# Altium integrated library Altera MAX 9000.IntLib: 43 symbols (part 4 of 4)
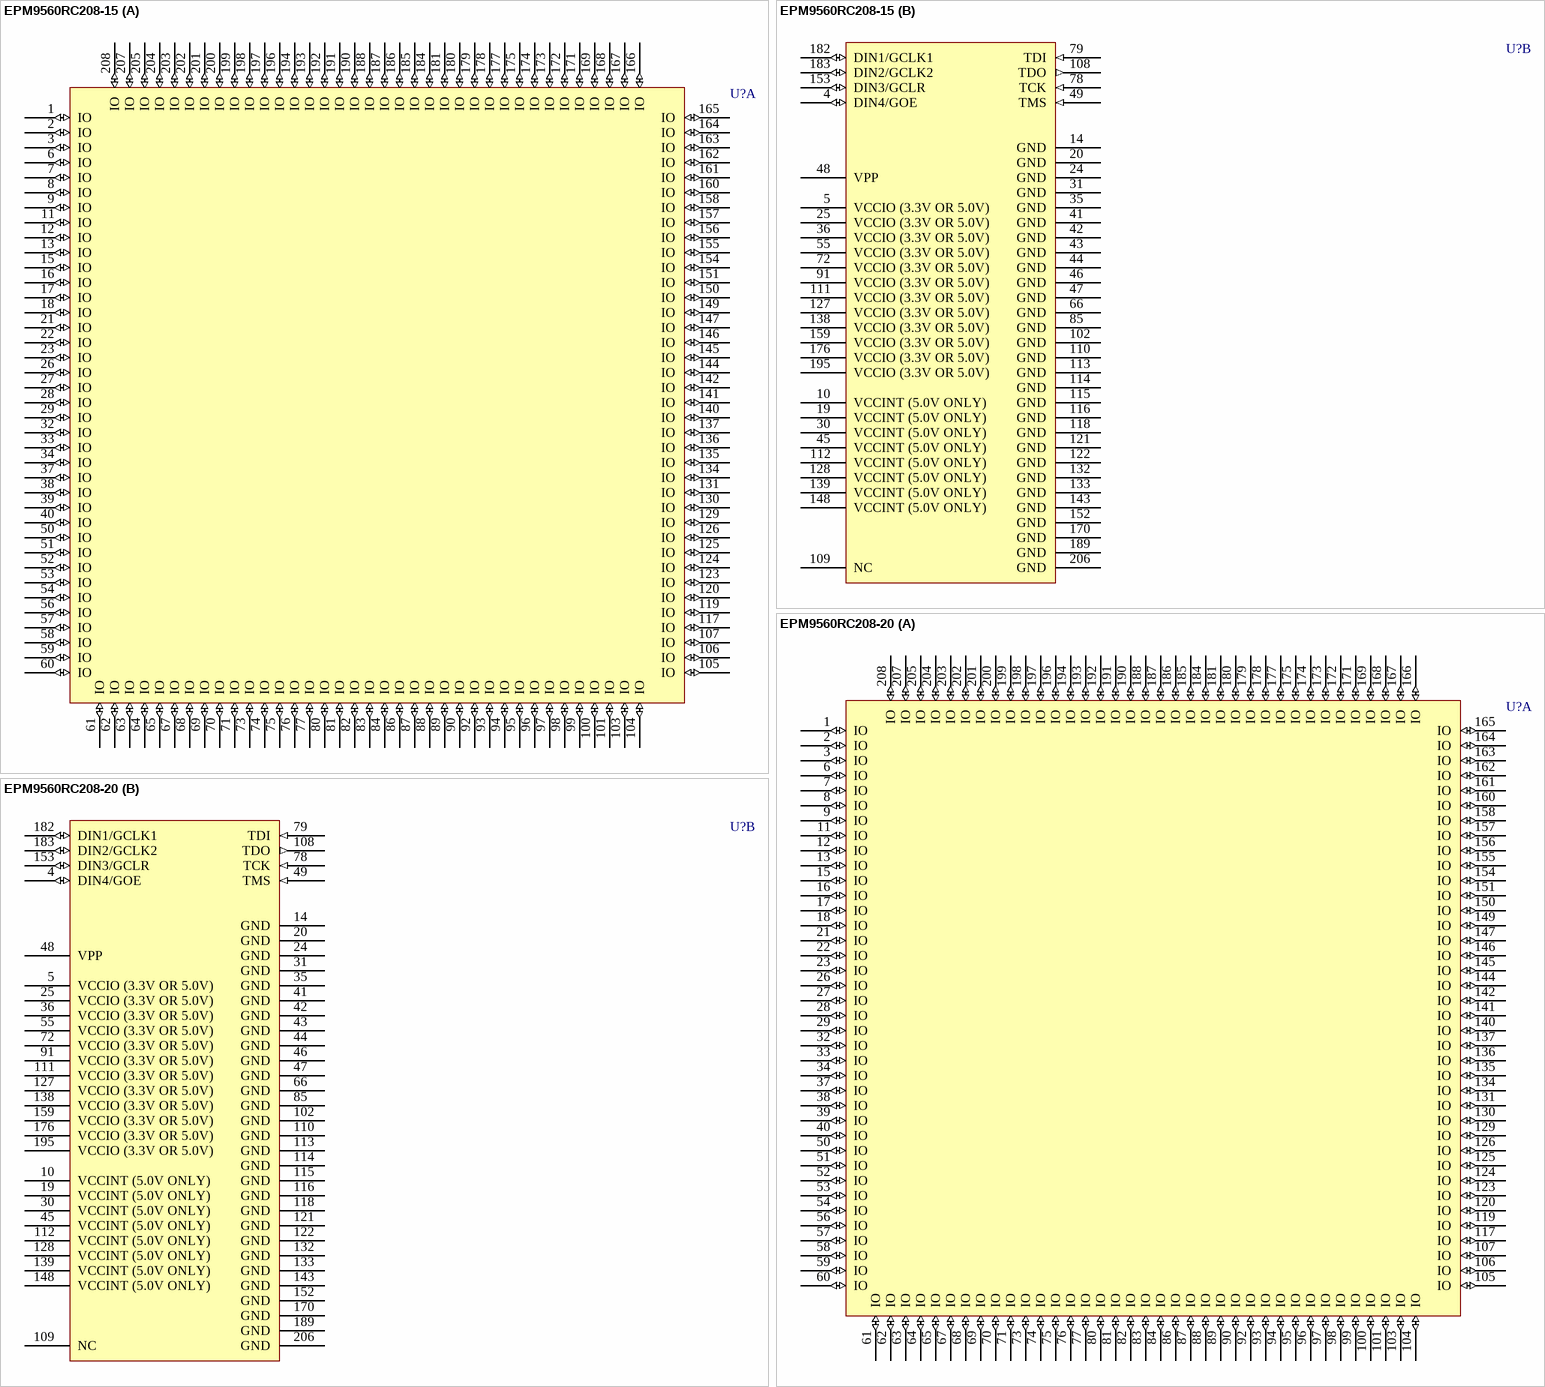
[diagram p33: symbols EPM9560RC208-15 to EPM9560RC208-20]

## EPM9560RC208-15
designator U?
MAX 9000 PLD with 153 I/O Pins, 208-Pin RQFP, Commercial Grade; Published: 23-Sep-2002; LatestRevisionDate: 13-Apr-2006; LatestRevisionNote: IPC-7351 Footprint Added.; DatasheetVersion: Jul-1999; PackageVersion: ver14.1, Oct-2005; PackageReference: RQFP208; Publisher: Altium Limited; PackageDescription: 208-Pin Power Quad Flat Pack (RQFP208); Code_JEDEC: MS-029-FA-1; ComponentLink1Description: Manufacturer Link; ComponentLink1URL: http://www.altera.com/products/devices/max9k/m9k-index.html; ComponentLink2Description: Datasheet; ComponentLink2URL: http://www.altera.com/literature/ds/m9000.pdf
footprint RQFP208_N (Shrink QFP, 208-Leads, Body 28x28mm, Pitch 0.5mm, IPC Medium Density)
footprint RQFP208_L (Shrink QFP, 208-Leads, Body 28x28mm, Pitch 0.5mm, IPC High Density)
footprint RQFP208_M (Shrink QFP, 208-Leads, Body 28x28mm, Pitch 0.5mm, IPC Low Density)
3D model EPM9560-RQFP208 (208-Pin Power Quad Flat Pack (RQFP208))
part A pins: 1 IO (io), 2 IO (io), 3 IO (io), 6 IO (io), 7 IO (io), 8 IO (io), 9 IO (io), 11 IO (io), 12 IO (io), 13 IO (io), 15 IO (io), 16 IO (io), 17 IO (io), 18 IO (io), 21 IO (io), 22 IO (io), 23 IO (io), 26 IO (io), 27 IO (io), 28 IO (io), 29 IO (io), 32 IO (io), 33 IO (io), 34 IO (io), 37 IO (io), 38 IO (io), 39 IO (io), 40 IO (io), 50 IO (io), 51 IO (io), 52 IO (io), 53 IO (io), 54 IO (io), 56 IO (io), 57 IO (io), 58 IO (io), 59 IO (io), 60 IO (io), 61 IO (io), 62 IO (io), 63 IO (io), 64 IO (io), 65 IO (io), 67 IO (io), 68 IO (io), 69 IO (io), 70 IO (io), 71 IO (io), 73 IO (io), 74 IO (io), 75 IO (io), 76 IO (io), 77 IO (io), 80 IO (io), 81 IO (io), 82 IO (io), 83 IO (io), 84 IO (io), 86 IO (io), 87 IO (io), 88 IO (io), 89 IO (io), 90 IO (io), 92 IO (io), 93 IO (io), 94 IO (io), 95 IO (io), 96 IO (io), 97 IO (io), 98 IO (io), 99 IO (io), 100 IO (io), 101 IO (io), 103 IO (io), 104 IO (io), 105 IO (io), 106 IO (io), 107 IO (io), 117 IO (io), 119 IO (io), 120 IO (io), 123 IO (io), 124 IO (io), 125 IO (io), 126 IO (io), 129 IO (io), 130 IO (io), 131 IO (io), 134 IO (io), 135 IO (io), 136 IO (io), 137 IO (io), 140 IO (io), 141 IO (io), 142 IO (io), 144 IO (io), 145 IO (io), 146 IO (io), 147 IO (io), 149 IO (io), 150 IO (io), 151 IO (io), 154 IO (io), 155 IO (io), 156 IO (io), 157 IO (io), 158 IO (io), 160 IO (io), 161 IO (io), 162 IO (io), 163 IO (io), 164 IO (io), 165 IO (io), 166 IO (io), 167 IO (io), 168 IO (io), 169 IO (io), 171 IO (io), 172 IO (io), 173 IO (io), 174 IO (io), 175 IO (io), 177 IO (io), 178 IO (io), 179 IO (io), 180 IO (io), 181 IO (io), 184 IO (io), 185 IO (io), 186 IO (io), 187 IO (io), 188 IO (io), 190 IO (io), 191 IO (io), 192 IO (io), 193 IO (io), 194 IO (io), 196 IO (io), 197 IO (io), 198 IO (io), 199 IO (io), 200 IO (io), 201 IO (io), 202 IO (io), 203 IO (io), 204 IO (io), 205 IO (io), 207 IO (io), 208 IO (io)
part B pins: 4 DIN4/GOE (io), 5 VCCIO (3.3V OR 5.0V) (power), 10 VCCINT (5.0V ONLY) (power), 14 GND (power), 19 VCCINT (5.0V ONLY) (power), 20 GND (power), 24 GND (power), 25 VCCIO (3.3V OR 5.0V) (power), 30 VCCINT (5.0V ONLY) (power), 31 GND (power), 35 GND (power), 36 VCCIO (3.3V OR 5.0V) (power), 41 GND (power), 42 GND (power), 43 GND (power), 44 GND (power), 45 VCCINT (5.0V ONLY) (power), 46 GND (power), 47 GND (power), 48 VPP (power), 49 TMS (in), 55 VCCIO (3.3V OR 5.0V) (power), 66 GND (power), 72 VCCIO (3.3V OR 5.0V) (power), 78 TCK (in), 79 TDI (in), 85 GND (power), 91 VCCIO (3.3V OR 5.0V) (power), 102 GND (power), 108 TDO (out), 109 NC, 110 GND (power), 111 VCCIO (3.3V OR 5.0V) (power), 112 VCCINT (5.0V ONLY) (power), 113 GND (power), 114 GND (power), 115 GND (power), 116 GND (power), 118 GND (power), 121 GND (power), 122 GND (power), 127 VCCIO (3.3V OR 5.0V) (power), 128 VCCINT (5.0V ONLY) (power), 132 GND (power), 133 GND (power), 138 VCCIO (3.3V OR 5.0V) (power), 139 VCCINT (5.0V ONLY) (power), 143 GND (power), 148 VCCINT (5.0V ONLY) (power), 152 GND (power), 153 DIN3/GCLR (io), 159 VCCIO (3.3V OR 5.0V) (power), 170 GND (power), 176 VCCIO (3.3V OR 5.0V) (power), 182 DIN1/GCLK1 (io), 183 DIN2/GCLK2 (io), 189 GND (power), 195 VCCIO (3.3V OR 5.0V) (power), 206 GND (power)

## EPM9560RC208-20
designator U?
MAX 9000 PLD with 153 I/O Pins, 208-Pin RQFP, Commercial Grade; Published: 23-Sep-2002; LatestRevisionDate: 13-Apr-2006; LatestRevisionNote: IPC-7351 Footprint Added.; DatasheetVersion: Jul-1999; PackageVersion: ver14.1, Oct-2005; PackageReference: RQFP208; Publisher: Altium Limited; PackageDescription: 208-Pin Power Quad Flat Pack (RQFP208); Code_JEDEC: MS-029-FA-1; ComponentLink1Description: Manufacturer Link; ComponentLink1URL: http://www.altera.com/products/devices/max9k/m9k-index.html; ComponentLink2Description: Datasheet; ComponentLink2URL: http://www.altera.com/literature/ds/m9000.pdf
footprint RQFP208_N (Shrink QFP, 208-Leads, Body 28x28mm, Pitch 0.5mm, IPC Medium Density)
footprint RQFP208_L (Shrink QFP, 208-Leads, Body 28x28mm, Pitch 0.5mm, IPC High Density)
footprint RQFP208_M (Shrink QFP, 208-Leads, Body 28x28mm, Pitch 0.5mm, IPC Low Density)
3D model EPM9560-RQFP208 (208-Pin Power Quad Flat Pack (RQFP208))
part A pins: 1 IO (io), 2 IO (io), 3 IO (io), 6 IO (io), 7 IO (io), 8 IO (io), 9 IO (io), 11 IO (io), 12 IO (io), 13 IO (io), 15 IO (io), 16 IO (io), 17 IO (io), 18 IO (io), 21 IO (io), 22 IO (io), 23 IO (io), 26 IO (io), 27 IO (io), 28 IO (io), 29 IO (io), 32 IO (io), 33 IO (io), 34 IO (io), 37 IO (io), 38 IO (io), 39 IO (io), 40 IO (io), 50 IO (io), 51 IO (io), 52 IO (io), 53 IO (io), 54 IO (io), 56 IO (io), 57 IO (io), 58 IO (io), 59 IO (io), 60 IO (io), 61 IO (io), 62 IO (io), 63 IO (io), 64 IO (io), 65 IO (io), 67 IO (io), 68 IO (io), 69 IO (io), 70 IO (io), 71 IO (io), 73 IO (io), 74 IO (io), 75 IO (io), 76 IO (io), 77 IO (io), 80 IO (io), 81 IO (io), 82 IO (io), 83 IO (io), 84 IO (io), 86 IO (io), 87 IO (io), 88 IO (io), 89 IO (io), 90 IO (io), 92 IO (io), 93 IO (io), 94 IO (io), 95 IO (io), 96 IO (io), 97 IO (io), 98 IO (io), 99 IO (io), 100 IO (io), 101 IO (io), 103 IO (io), 104 IO (io), 105 IO (io), 106 IO (io), 107 IO (io), 117 IO (io), 119 IO (io), 120 IO (io), 123 IO (io), 124 IO (io), 125 IO (io), 126 IO (io), 129 IO (io), 130 IO (io), 131 IO (io), 134 IO (io), 135 IO (io), 136 IO (io), 137 IO (io), 140 IO (io), 141 IO (io), 142 IO (io), 144 IO (io), 145 IO (io), 146 IO (io), 147 IO (io), 149 IO (io), 150 IO (io), 151 IO (io), 154 IO (io), 155 IO (io), 156 IO (io), 157 IO (io), 158 IO (io), 160 IO (io), 161 IO (io), 162 IO (io), 163 IO (io), 164 IO (io), 165 IO (io), 166 IO (io), 167 IO (io), 168 IO (io), 169 IO (io), 171 IO (io), 172 IO (io), 173 IO (io), 174 IO (io), 175 IO (io), 177 IO (io), 178 IO (io), 179 IO (io), 180 IO (io), 181 IO (io), 184 IO (io), 185 IO (io), 186 IO (io), 187 IO (io), 188 IO (io), 190 IO (io), 191 IO (io), 192 IO (io), 193 IO (io), 194 IO (io), 196 IO (io), 197 IO (io), 198 IO (io), 199 IO (io), 200 IO (io), 201 IO (io), 202 IO (io), 203 IO (io), 204 IO (io), 205 IO (io), 207 IO (io), 208 IO (io)
part B pins: 4 DIN4/GOE (io), 5 VCCIO (3.3V OR 5.0V) (power), 10 VCCINT (5.0V ONLY) (power), 14 GND (power), 19 VCCINT (5.0V ONLY) (power), 20 GND (power), 24 GND (power), 25 VCCIO (3.3V OR 5.0V) (power), 30 VCCINT (5.0V ONLY) (power), 31 GND (power), 35 GND (power), 36 VCCIO (3.3V OR 5.0V) (power), 41 GND (power), 42 GND (power), 43 GND (power), 44 GND (power), 45 VCCINT (5.0V ONLY) (power), 46 GND (power), 47 GND (power), 48 VPP (power), 49 TMS (in), 55 VCCIO (3.3V OR 5.0V) (power), 66 GND (power), 72 VCCIO (3.3V OR 5.0V) (power), 78 TCK (in), 79 TDI (in), 85 GND (power), 91 VCCIO (3.3V OR 5.0V) (power), 102 GND (power), 108 TDO (out), 109 NC, 110 GND (power), 111 VCCIO (3.3V OR 5.0V) (power), 112 VCCINT (5.0V ONLY) (power), 113 GND (power), 114 GND (power), 115 GND (power), 116 GND (power), 118 GND (power), 121 GND (power), 122 GND (power), 127 VCCIO (3.3V OR 5.0V) (power), 128 VCCINT (5.0V ONLY) (power), 132 GND (power), 133 GND (power), 138 VCCIO (3.3V OR 5.0V) (power), 139 VCCINT (5.0V ONLY) (power), 143 GND (power), 148 VCCINT (5.0V ONLY) (power), 152 GND (power), 153 DIN3/GCLR (io), 159 VCCIO (3.3V OR 5.0V) (power), 170 GND (power), 176 VCCIO (3.3V OR 5.0V) (power), 182 DIN1/GCLK1 (io), 183 DIN2/GCLK2 (io), 189 GND (power), 195 VCCIO (3.3V OR 5.0V) (power), 206 GND (power)

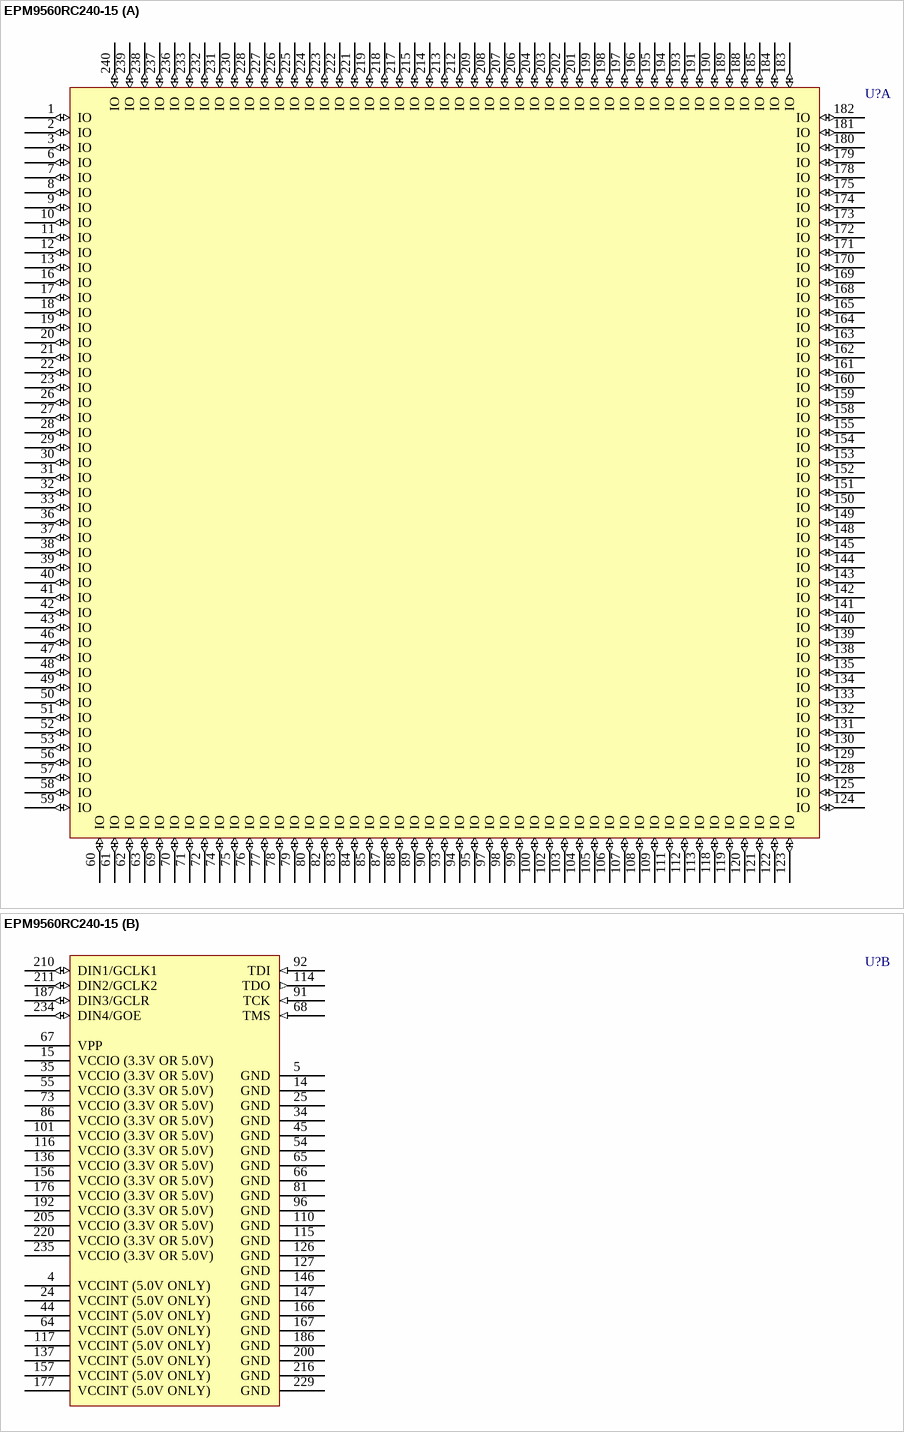
[diagram p25: symbol EPM9560RC240-15]

## EPM9560RC240-15
designator U?
MAX 9000 PLD with 191 I/O Pins, 240-Pin RQFP, Commercial Grade; Published: 23-Sep-2002; LatestRevisionDate: 13-Apr-2006; LatestRevisionNote: IPC-7351 Footprint Added.; DatasheetVersion: Jul-1999; PackageVersion: ver14.1, Oct-2005; PackageReference: RQFP240; Publisher: Altium Limited; PackageDescription: 240-Pin Power Quad Flat Pack (RQFP240); Code_JEDEC: MS-029-GA; ComponentLink1Description: Manufacturer Link; ComponentLink1URL: http://www.altera.com/products/devices/max9k/m9k-index.html; ComponentLink2Description: Datasheet; ComponentLink2URL: http://www.altera.com/literature/ds/m9000.pdf
footprint RQFP240_N (Shrink QFP, 240-Leads, Body 32x32mm, Pitch 0.5mm, IPC Medium Density)
footprint RQFP240_L (Shrink QFP, 240-Leads, Body 32x32mm, Pitch 0.5mm, IPC High Density)
footprint RQFP240_M (Shrink QFP, 240-Leads, Body 32x32mm, Pitch 0.5mm, IPC Low Density)
3D model EPM9560-RQFP240 (240-Pin Power Quad Flat Pack (RQFP240))
part A pins: 1 IO (io), 2 IO (io), 3 IO (io), 6 IO (io), 7 IO (io), 8 IO (io), 9 IO (io), 10 IO (io), 11 IO (io), 12 IO (io), 13 IO (io), 16 IO (io), 17 IO (io), 18 IO (io), 19 IO (io), 20 IO (io), 21 IO (io), 22 IO (io), 23 IO (io), 26 IO (io), 27 IO (io), 28 IO (io), 29 IO (io), 30 IO (io), 31 IO (io), 32 IO (io), 33 IO (io), 36 IO (io), 37 IO (io), 38 IO (io), 39 IO (io), 40 IO (io), 41 IO (io), 42 IO (io), 43 IO (io), 46 IO (io), 47 IO (io), 48 IO (io), 49 IO (io), 50 IO (io), 51 IO (io), 52 IO (io), 53 IO (io), 56 IO (io), 57 IO (io), 58 IO (io), 59 IO (io), 60 IO (io), 61 IO (io), 62 IO (io), 63 IO (io), 69 IO (io), 70 IO (io), 71 IO (io), 72 IO (io), 74 IO (io), 75 IO (io), 76 IO (io), 77 IO (io), 78 IO (io), 79 IO (io), 80 IO (io), 82 IO (io), 83 IO (io), 84 IO (io), 85 IO (io), 87 IO (io), 88 IO (io), 89 IO (io), 90 IO (io), 93 IO (io), 94 IO (io), 95 IO (io), 97 IO (io), 98 IO (io), 99 IO (io), 100 IO (io), 102 IO (io), 103 IO (io), 104 IO (io), 105 IO (io), 106 IO (io), 107 IO (io), 108 IO (io), 109 IO (io), 111 IO (io), 112 IO (io), 113 IO (io), 118 IO (io), 119 IO (io), 120 IO (io), 121 IO (io), 122 IO (io), 123 IO (io), 124 IO (io), 125 IO (io), 128 IO (io), 129 IO (io), 130 IO (io), 131 IO (io), 132 IO (io), 133 IO (io), 134 IO (io), 135 IO (io), 138 IO (io), 139 IO (io), 140 IO (io), 141 IO (io), 142 IO (io), 143 IO (io), 144 IO (io), 145 IO (io), 148 IO (io), 149 IO (io), 150 IO (io), 151 IO (io), 152 IO (io), 153 IO (io), 154 IO (io), 155 IO (io), 158 IO (io), 159 IO (io), 160 IO (io), 161 IO (io), 162 IO (io), 163 IO (io), 164 IO (io), 165 IO (io), 168 IO (io), 169 IO (io), 170 IO (io), 171 IO (io), 172 IO (io), 173 IO (io), 174 IO (io), 175 IO (io), 178 IO (io), 179 IO (io), 180 IO (io), 181 IO (io), 182 IO (io), 183 IO (io), 184 IO (io), 185 IO (io), 188 IO (io), 189 IO (io), 190 IO (io), 191 IO (io), 193 IO (io), 194 IO (io), 195 IO (io), 196 IO (io), 197 IO (io), 198 IO (io), 199 IO (io), 201 IO (io), 202 IO (io), 203 IO (io), 204 IO (io), 206 IO (io), 207 IO (io), 208 IO (io), 209 IO (io), 212 IO (io), 213 IO (io), 214 IO (io), 215 IO (io), 217 IO (io), 218 IO (io), 219 IO (io), 221 IO (io), 222 IO (io), 223 IO (io), 224 IO (io), 225 IO (io), 226 IO (io), 227 IO (io), 228 IO (io), 230 IO (io), 231 IO (io), 232 IO (io), 233 IO (io), 236 IO (io), 237 IO (io), 238 IO (io), 239 IO (io), 240 IO (io)
part B pins: 4 VCCINT (5.0V ONLY) (power), 5 GND (power), 14 GND (power), 15 VCCIO (3.3V OR 5.0V) (power), 24 VCCINT (5.0V ONLY) (power), 25 GND (power), 34 GND (power), 35 VCCIO (3.3V OR 5.0V) (power), 44 VCCINT (5.0V ONLY) (power), 45 GND (power), 54 GND (power), 55 VCCIO (3.3V OR 5.0V) (power), 64 VCCINT (5.0V ONLY) (power), 65 GND (power), 66 GND (power), 67 VPP (power), 68 TMS (in), 73 VCCIO (3.3V OR 5.0V) (power), 81 GND (power), 86 VCCIO (3.3V OR 5.0V) (power), 91 TCK (in), 92 TDI (in), 96 GND (power), 101 VCCIO (3.3V OR 5.0V) (power), 110 GND (power), 114 TDO (out), 115 GND (power), 116 VCCIO (3.3V OR 5.0V) (power), 117 VCCINT (5.0V ONLY) (power), 126 GND (power), 127 GND (power), 136 VCCIO (3.3V OR 5.0V) (power), 137 VCCINT (5.0V ONLY) (power), 146 GND (power), 147 GND (power), 156 VCCIO (3.3V OR 5.0V) (power), 157 VCCINT (5.0V ONLY) (power), 166 GND (power), 167 GND (power), 176 VCCIO (3.3V OR 5.0V) (power), 177 VCCINT (5.0V ONLY) (power), 186 GND (power), 187 DIN3/GCLR (io), 192 VCCIO (3.3V OR 5.0V) (power), 200 GND (power), 205 VCCIO (3.3V OR 5.0V) (power), 210 DIN1/GCLK1 (io), 211 DIN2/GCLK2 (io), 216 GND (power), 220 VCCIO (3.3V OR 5.0V) (power), 229 GND (power), 234 DIN4/GOE (io), 235 VCCIO (3.3V OR 5.0V) (power)

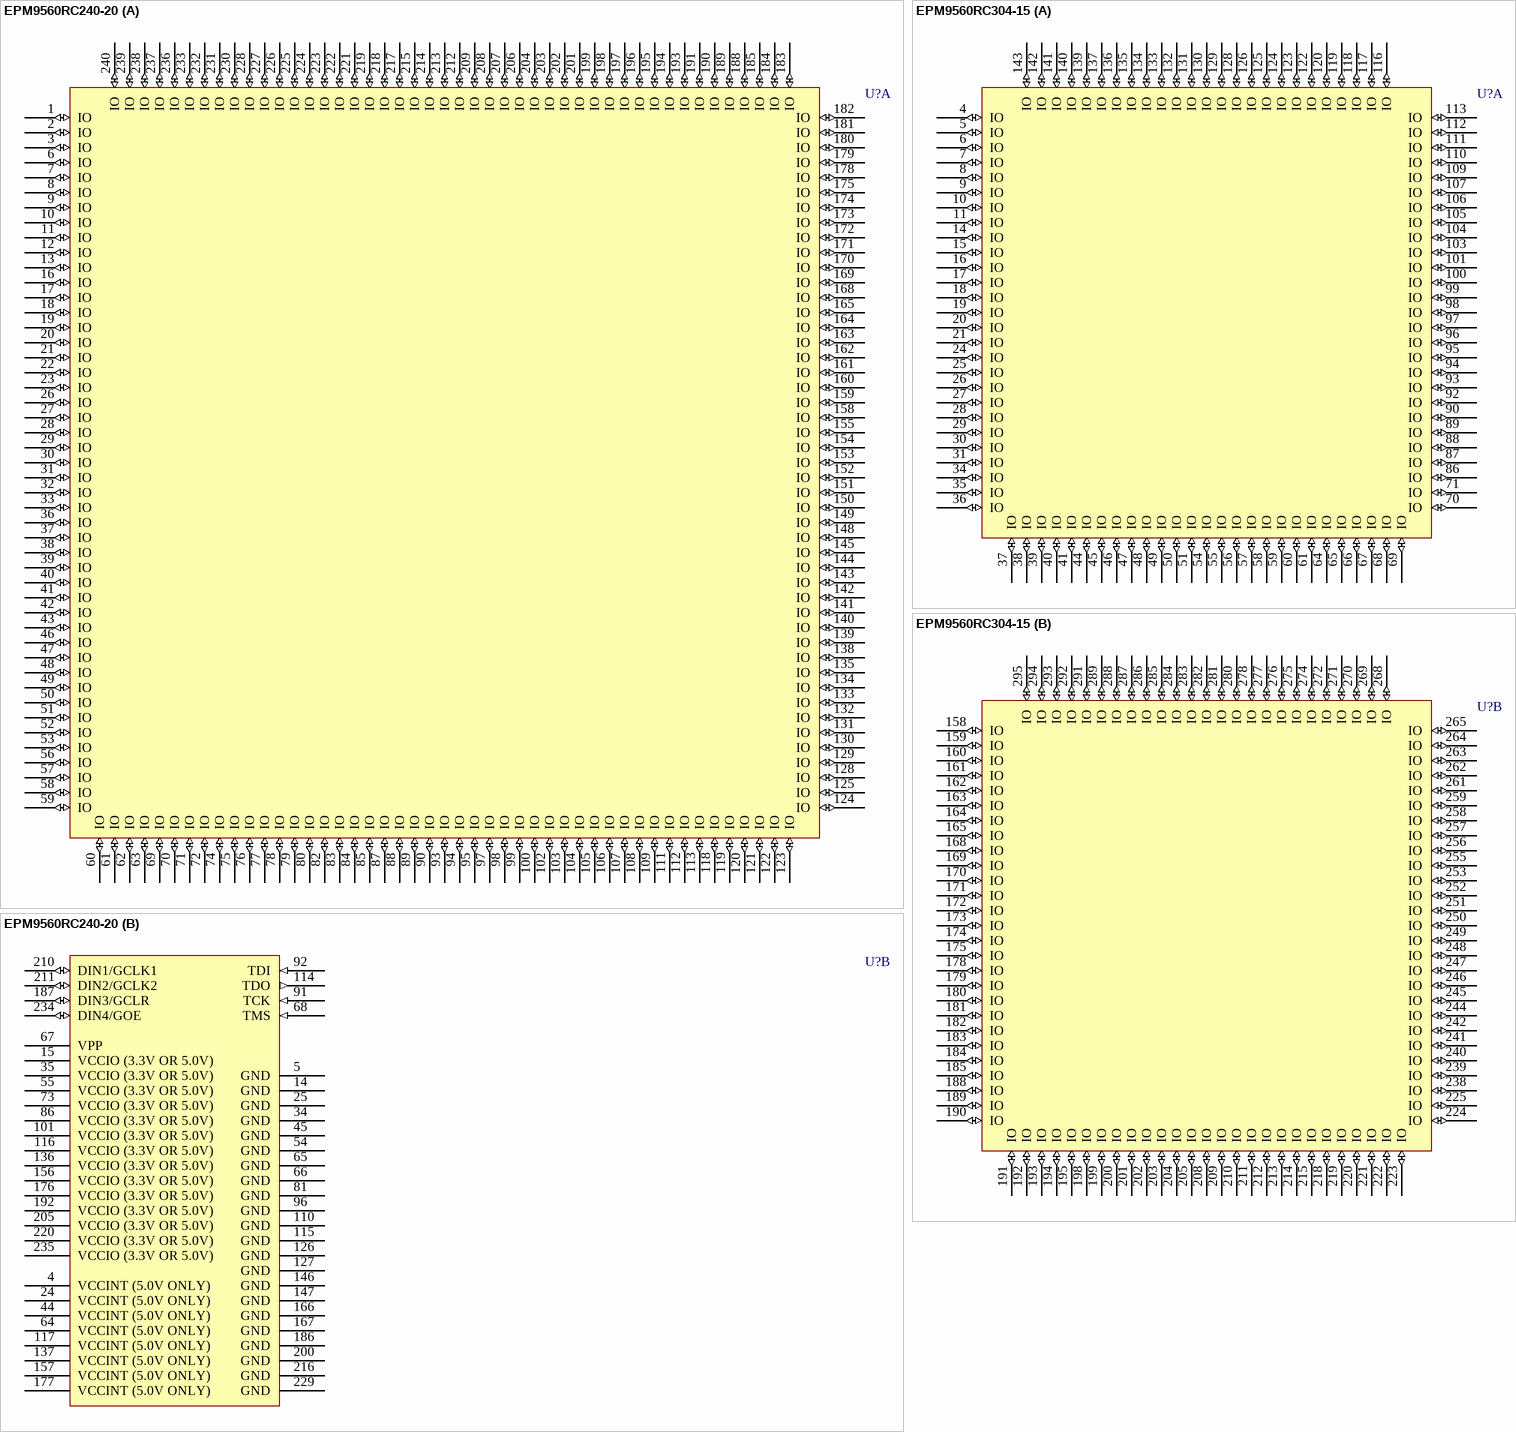
[diagram p26: symbols EPM9560RC240-20 to EPM9560RC304-15]

## EPM9560RC240-20
designator U?
MAX 9000 PLD with 191 I/O Pins, 240-Pin RQFP, Commercial Grade; Published: 23-Sep-2002; LatestRevisionDate: 13-Apr-2006; LatestRevisionNote: IPC-7351 Footprint Added.; DatasheetVersion: Jul-1999; PackageVersion: ver14.1, Oct-2005; PackageReference: RQFP240; Publisher: Altium Limited; PackageDescription: 240-Pin Power Quad Flat Pack (RQFP240); Code_JEDEC: MS-029-GA; ComponentLink1Description: Manufacturer Link; ComponentLink1URL: http://www.altera.com/products/devices/max9k/m9k-index.html; ComponentLink2Description: Datasheet; ComponentLink2URL: http://www.altera.com/literature/ds/m9000.pdf
footprint RQFP240_N (Shrink QFP, 240-Leads, Body 32x32mm, Pitch 0.5mm, IPC Medium Density)
footprint RQFP240_L (Shrink QFP, 240-Leads, Body 32x32mm, Pitch 0.5mm, IPC High Density)
footprint RQFP240_M (Shrink QFP, 240-Leads, Body 32x32mm, Pitch 0.5mm, IPC Low Density)
3D model EPM9560-RQFP240 (240-Pin Power Quad Flat Pack (RQFP240))
part A pins: 1 IO (io), 2 IO (io), 3 IO (io), 6 IO (io), 7 IO (io), 8 IO (io), 9 IO (io), 10 IO (io), 11 IO (io), 12 IO (io), 13 IO (io), 16 IO (io), 17 IO (io), 18 IO (io), 19 IO (io), 20 IO (io), 21 IO (io), 22 IO (io), 23 IO (io), 26 IO (io), 27 IO (io), 28 IO (io), 29 IO (io), 30 IO (io), 31 IO (io), 32 IO (io), 33 IO (io), 36 IO (io), 37 IO (io), 38 IO (io), 39 IO (io), 40 IO (io), 41 IO (io), 42 IO (io), 43 IO (io), 46 IO (io), 47 IO (io), 48 IO (io), 49 IO (io), 50 IO (io), 51 IO (io), 52 IO (io), 53 IO (io), 56 IO (io), 57 IO (io), 58 IO (io), 59 IO (io), 60 IO (io), 61 IO (io), 62 IO (io), 63 IO (io), 69 IO (io), 70 IO (io), 71 IO (io), 72 IO (io), 74 IO (io), 75 IO (io), 76 IO (io), 77 IO (io), 78 IO (io), 79 IO (io), 80 IO (io), 82 IO (io), 83 IO (io), 84 IO (io), 85 IO (io), 87 IO (io), 88 IO (io), 89 IO (io), 90 IO (io), 93 IO (io), 94 IO (io), 95 IO (io), 97 IO (io), 98 IO (io), 99 IO (io), 100 IO (io), 102 IO (io), 103 IO (io), 104 IO (io), 105 IO (io), 106 IO (io), 107 IO (io), 108 IO (io), 109 IO (io), 111 IO (io), 112 IO (io), 113 IO (io), 118 IO (io), 119 IO (io), 120 IO (io), 121 IO (io), 122 IO (io), 123 IO (io), 124 IO (io), 125 IO (io), 128 IO (io), 129 IO (io), 130 IO (io), 131 IO (io), 132 IO (io), 133 IO (io), 134 IO (io), 135 IO (io), 138 IO (io), 139 IO (io), 140 IO (io), 141 IO (io), 142 IO (io), 143 IO (io), 144 IO (io), 145 IO (io), 148 IO (io), 149 IO (io), 150 IO (io), 151 IO (io), 152 IO (io), 153 IO (io), 154 IO (io), 155 IO (io), 158 IO (io), 159 IO (io), 160 IO (io), 161 IO (io), 162 IO (io), 163 IO (io), 164 IO (io), 165 IO (io), 168 IO (io), 169 IO (io), 170 IO (io), 171 IO (io), 172 IO (io), 173 IO (io), 174 IO (io), 175 IO (io), 178 IO (io), 179 IO (io), 180 IO (io), 181 IO (io), 182 IO (io), 183 IO (io), 184 IO (io), 185 IO (io), 188 IO (io), 189 IO (io), 190 IO (io), 191 IO (io), 193 IO (io), 194 IO (io), 195 IO (io), 196 IO (io), 197 IO (io), 198 IO (io), 199 IO (io), 201 IO (io), 202 IO (io), 203 IO (io), 204 IO (io), 206 IO (io), 207 IO (io), 208 IO (io), 209 IO (io), 212 IO (io), 213 IO (io), 214 IO (io), 215 IO (io), 217 IO (io), 218 IO (io), 219 IO (io), 221 IO (io), 222 IO (io), 223 IO (io), 224 IO (io), 225 IO (io), 226 IO (io), 227 IO (io), 228 IO (io), 230 IO (io), 231 IO (io), 232 IO (io), 233 IO (io), 236 IO (io), 237 IO (io), 238 IO (io), 239 IO (io), 240 IO (io)
part B pins: 4 VCCINT (5.0V ONLY) (power), 5 GND (power), 14 GND (power), 15 VCCIO (3.3V OR 5.0V) (power), 24 VCCINT (5.0V ONLY) (power), 25 GND (power), 34 GND (power), 35 VCCIO (3.3V OR 5.0V) (power), 44 VCCINT (5.0V ONLY) (power), 45 GND (power), 54 GND (power), 55 VCCIO (3.3V OR 5.0V) (power), 64 VCCINT (5.0V ONLY) (power), 65 GND (power), 66 GND (power), 67 VPP (power), 68 TMS (in), 73 VCCIO (3.3V OR 5.0V) (power), 81 GND (power), 86 VCCIO (3.3V OR 5.0V) (power), 91 TCK (in), 92 TDI (in), 96 GND (power), 101 VCCIO (3.3V OR 5.0V) (power), 110 GND (power), 114 TDO (out), 115 GND (power), 116 VCCIO (3.3V OR 5.0V) (power), 117 VCCINT (5.0V ONLY) (power), 126 GND (power), 127 GND (power), 136 VCCIO (3.3V OR 5.0V) (power), 137 VCCINT (5.0V ONLY) (power), 146 GND (power), 147 GND (power), 156 VCCIO (3.3V OR 5.0V) (power), 157 VCCINT (5.0V ONLY) (power), 166 GND (power), 167 GND (power), 176 VCCIO (3.3V OR 5.0V) (power), 177 VCCINT (5.0V ONLY) (power), 186 GND (power), 187 DIN3/GCLR (io), 192 VCCIO (3.3V OR 5.0V) (power), 200 GND (power), 205 VCCIO (3.3V OR 5.0V) (power), 210 DIN1/GCLK1 (io), 211 DIN2/GCLK2 (io), 216 GND (power), 220 VCCIO (3.3V OR 5.0V) (power), 229 GND (power), 234 DIN4/GOE (io), 235 VCCIO (3.3V OR 5.0V) (power)

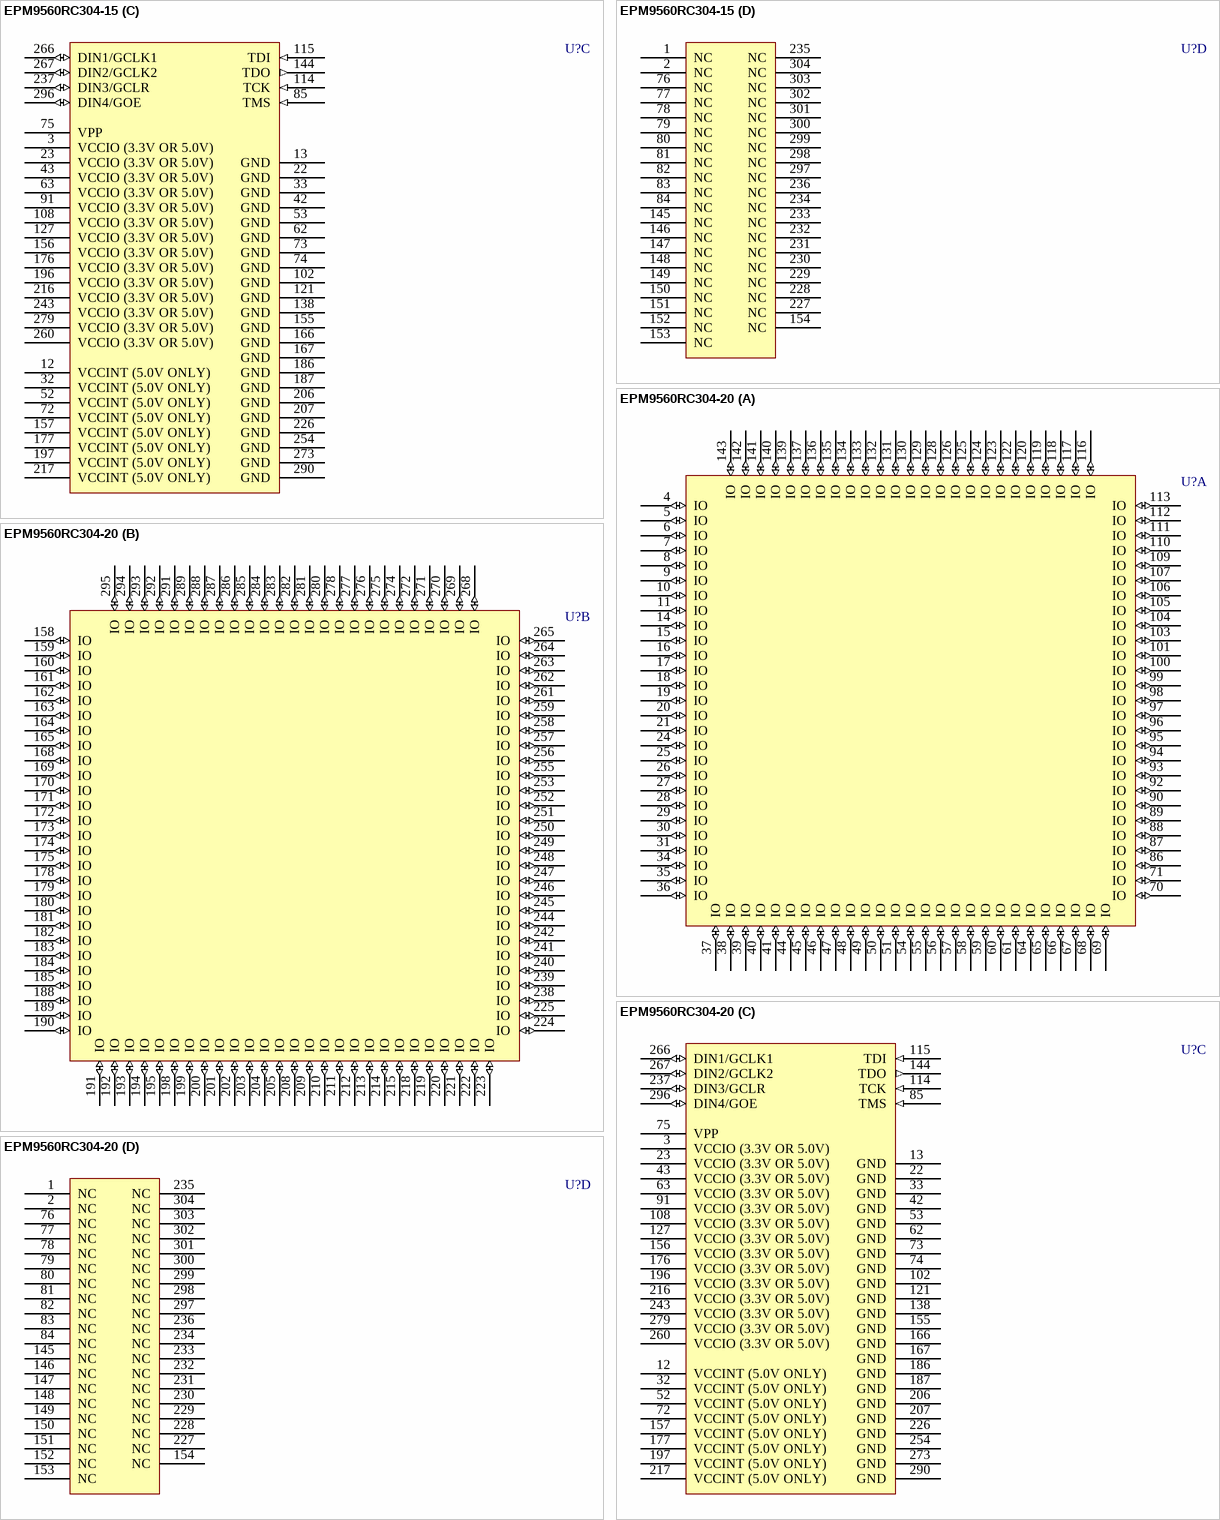
[diagram p27: symbols EPM9560RC304-15 to EPM9560RC304-20]

## EPM9560RC304-15
designator U?
MAX 9000 PLD with 216 I/O Pins, 304-Pin RQFP, Commercial Grade; Published: 23-Sep-2002; LatestRevisionDate: 13-Apr-2006; LatestRevisionNote: IPC-7351 Footprint Added.; DatasheetVersion: Jul-1999; PackageVersion: ver14.1, Oct-2005; PackageReference: RQFP304; Publisher: Altium Limited; PackageDescription: 304-Pin Power Quad Flat Pack (RQFP304); Code_JEDEC: MS-029-JA; ComponentLink1Description: Manufacturer Link; ComponentLink1URL: http://www.altera.com/products/devices/max9k/m9k-index.html; ComponentLink2Description: Datasheet; ComponentLink2URL: http://www.altera.com/literature/ds/m9000.pdf
footprint RQFP304_N (Shrink QFP, 304-Leads, Body 40x40mm, Pitch 0.5mm, IPC Medium Density)
footprint RQFP304_L (Shrink QFP, 304-Leads, Body 40x40mm, Pitch 0.5mm, IPC High Density)
footprint RQFP304_M (Shrink QFP, 304-Leads, Body 40x40mm, Pitch 0.5mm, IPC Low Density)
3D model EPM9560-RQFP304 (304-Pin Power Quad Flat Pack (RQFP304))
part A pins: 4 IO (io), 5 IO (io), 6 IO (io), 7 IO (io), 8 IO (io), 9 IO (io), 10 IO (io), 11 IO (io), 14 IO (io), 15 IO (io), 16 IO (io), 17 IO (io), 18 IO (io), 19 IO (io), 20 IO (io), 21 IO (io), 24 IO (io), 25 IO (io), 26 IO (io), 27 IO (io), 28 IO (io), 29 IO (io), 30 IO (io), 31 IO (io), 34 IO (io), 35 IO (io), 36 IO (io), 37 IO (io), 38 IO (io), 39 IO (io), 40 IO (io), 41 IO (io), 44 IO (io), 45 IO (io), 46 IO (io), 47 IO (io), 48 IO (io), 49 IO (io), 50 IO (io), 51 IO (io), 54 IO (io), 55 IO (io), 56 IO (io), 57 IO (io), 58 IO (io), 59 IO (io), 60 IO (io), 61 IO (io), 64 IO (io), 65 IO (io), 66 IO (io), 67 IO (io), 68 IO (io), 69 IO (io), 70 IO (io), 71 IO (io), 86 IO (io), 87 IO (io), 88 IO (io), 89 IO (io), 90 IO (io), 92 IO (io), 93 IO (io), 94 IO (io), 95 IO (io), 96 IO (io), 97 IO (io), 98 IO (io), 99 IO (io), 100 IO (io), 101 IO (io), 103 IO (io), 104 IO (io), 105 IO (io), 106 IO (io), 107 IO (io), 109 IO (io), 110 IO (io), 111 IO (io), 112 IO (io), 113 IO (io), 116 IO (io), 117 IO (io), 118 IO (io), 119 IO (io), 120 IO (io), 122 IO (io), 123 IO (io), 124 IO (io), 125 IO (io), 126 IO (io), 128 IO (io), 129 IO (io), 130 IO (io), 131 IO (io), 132 IO (io), 133 IO (io), 134 IO (io), 135 IO (io), 136 IO (io), 137 IO (io), 139 IO (io), 140 IO (io), 141 IO (io), 142 IO (io), 143 IO (io)
part B pins: 158 IO (io), 159 IO (io), 160 IO (io), 161 IO (io), 162 IO (io), 163 IO (io), 164 IO (io), 165 IO (io), 168 IO (io), 169 IO (io), 170 IO (io), 171 IO (io), 172 IO (io), 173 IO (io), 174 IO (io), 175 IO (io), 178 IO (io), 179 IO (io), 180 IO (io), 181 IO (io), 182 IO (io), 183 IO (io), 184 IO (io), 185 IO (io), 188 IO (io), 189 IO (io), 190 IO (io), 191 IO (io), 192 IO (io), 193 IO (io), 194 IO (io), 195 IO (io), 198 IO (io), 199 IO (io), 200 IO (io), 201 IO (io), 202 IO (io), 203 IO (io), 204 IO (io), 205 IO (io), 208 IO (io), 209 IO (io), 210 IO (io), 211 IO (io), 212 IO (io), 213 IO (io), 214 IO (io), 215 IO (io), 218 IO (io), 219 IO (io), 220 IO (io), 221 IO (io), 222 IO (io), 223 IO (io), 224 IO (io), 225 IO (io), 238 IO (io), 239 IO (io), 240 IO (io), 241 IO (io), 242 IO (io), 244 IO (io), 245 IO (io), 246 IO (io), 247 IO (io), 248 IO (io), 249 IO (io), 250 IO (io), 251 IO (io), 252 IO (io), 253 IO (io), 255 IO (io), 256 IO (io), 257 IO (io), 258 IO (io), 259 IO (io), 261 IO (io), 262 IO (io), 263 IO (io), 264 IO (io), 265 IO (io), 268 IO (io), 269 IO (io), 270 IO (io), 271 IO (io), 272 IO (io), 274 IO (io), 275 IO (io), 276 IO (io), 277 IO (io), 278 IO (io), 280 IO (io), 281 IO (io), 282 IO (io), 283 IO (io), 284 IO (io), 285 IO (io), 286 IO (io), 287 IO (io), 288 IO (io), 289 IO (io), 291 IO (io), 292 IO (io), 293 IO (io), 294 IO (io), 295 IO (io)
part C pins: 3 VCCIO (3.3V OR 5.0V) (power), 12 VCCINT (5.0V ONLY) (power), 13 GND (power), 22 GND (power), 23 VCCIO (3.3V OR 5.0V) (power), 32 VCCINT (5.0V ONLY) (power), 33 GND (power), 42 GND (power), 43 VCCIO (3.3V OR 5.0V) (power), 52 VCCINT (5.0V ONLY) (power), 53 GND (power), 62 GND (power), 63 VCCIO (3.3V OR 5.0V) (power), 72 VCCINT (5.0V ONLY) (power), 73 GND (power), 74 GND (power), 75 VPP (power), 85 TMS (in), 91 VCCIO (3.3V OR 5.0V) (power), 102 GND (power), 108 VCCIO (3.3V OR 5.0V) (power), 114 TCK (in), 115 TDI (in), 121 GND (power), 127 VCCIO (3.3V OR 5.0V) (power), 138 GND (power), 144 TDO (out), 155 GND (power), 156 VCCIO (3.3V OR 5.0V) (power), 157 VCCINT (5.0V ONLY) (power), 166 GND (power), 167 GND (power), 176 VCCIO (3.3V OR 5.0V) (power), 177 VCCINT (5.0V ONLY) (power), 186 GND (power), 187 GND (power), 196 VCCIO (3.3V OR 5.0V) (power), 197 VCCINT (5.0V ONLY) (power), 206 GND (power), 207 GND (power), 216 VCCIO (3.3V OR 5.0V) (power), 217 VCCINT (5.0V ONLY) (power), 226 GND (power), 237 DIN3/GCLR (io), 243 VCCIO (3.3V OR 5.0V) (power), 254 GND (power), 260 VCCIO (3.3V OR 5.0V) (power), 266 DIN1/GCLK1 (io), 267 DIN2/GCLK2 (io), 273 GND (power), 279 VCCIO (3.3V OR 5.0V) (power), 290 GND (power), 296 DIN4/GOE (io)
part D pins: 1 NC, 2 NC, 76 NC, 77 NC, 78 NC, 79 NC, 80 NC, 81 NC, 82 NC, 83 NC, 84 NC, 145 NC, 146 NC, 147 NC, 148 NC, 149 NC, 150 NC, 151 NC, 152 NC, 153 NC, 154 NC, 227 NC, 228 NC, 229 NC, 230 NC, 231 NC, 232 NC, 233 NC, 234 NC, 235 NC, 236 NC, 297 NC, 298 NC, 299 NC, 300 NC, 301 NC, 302 NC, 303 NC, 304 NC

## EPM9560RC304-20
designator U?
MAX 9000 PLD with 216 I/O Pins, 304-Pin RQFP, Commercial Grade; Published: 23-Sep-2002; LatestRevisionDate: 13-Apr-2006; LatestRevisionNote: IPC-7351 Footprint Added.; DatasheetVersion: Jul-1999; PackageVersion: ver14.1, Oct-2005; PackageReference: RQFP304; Publisher: Altium Limited; PackageDescription: 304-Pin Power Quad Flat Pack (RQFP304); Code_JEDEC: MS-029-JA; ComponentLink1Description: Manufacturer Link; ComponentLink1URL: http://www.altera.com/products/devices/max9k/m9k-index.html; ComponentLink2Description: Datasheet; ComponentLink2URL: http://www.altera.com/literature/ds/m9000.pdf; ComponentLink3Description: Discontinuation Notice; ComponentLink3URL: http://www.altera.com/literature/pcn/pdn0106.pdf
footprint RQFP304_N (Shrink QFP, 304-Leads, Body 40x40mm, Pitch 0.5mm, IPC Medium Density)
footprint RQFP304_L (Shrink QFP, 304-Leads, Body 40x40mm, Pitch 0.5mm, IPC High Density)
footprint RQFP304_M (Shrink QFP, 304-Leads, Body 40x40mm, Pitch 0.5mm, IPC Low Density)
3D model EPM9560-RQFP304 (304-Pin Power Quad Flat Pack (RQFP304))
part A pins: 4 IO (io), 5 IO (io), 6 IO (io), 7 IO (io), 8 IO (io), 9 IO (io), 10 IO (io), 11 IO (io), 14 IO (io), 15 IO (io), 16 IO (io), 17 IO (io), 18 IO (io), 19 IO (io), 20 IO (io), 21 IO (io), 24 IO (io), 25 IO (io), 26 IO (io), 27 IO (io), 28 IO (io), 29 IO (io), 30 IO (io), 31 IO (io), 34 IO (io), 35 IO (io), 36 IO (io), 37 IO (io), 38 IO (io), 39 IO (io), 40 IO (io), 41 IO (io), 44 IO (io), 45 IO (io), 46 IO (io), 47 IO (io), 48 IO (io), 49 IO (io), 50 IO (io), 51 IO (io), 54 IO (io), 55 IO (io), 56 IO (io), 57 IO (io), 58 IO (io), 59 IO (io), 60 IO (io), 61 IO (io), 64 IO (io), 65 IO (io), 66 IO (io), 67 IO (io), 68 IO (io), 69 IO (io), 70 IO (io), 71 IO (io), 86 IO (io), 87 IO (io), 88 IO (io), 89 IO (io), 90 IO (io), 92 IO (io), 93 IO (io), 94 IO (io), 95 IO (io), 96 IO (io), 97 IO (io), 98 IO (io), 99 IO (io), 100 IO (io), 101 IO (io), 103 IO (io), 104 IO (io), 105 IO (io), 106 IO (io), 107 IO (io), 109 IO (io), 110 IO (io), 111 IO (io), 112 IO (io), 113 IO (io), 116 IO (io), 117 IO (io), 118 IO (io), 119 IO (io), 120 IO (io), 122 IO (io), 123 IO (io), 124 IO (io), 125 IO (io), 126 IO (io), 128 IO (io), 129 IO (io), 130 IO (io), 131 IO (io), 132 IO (io), 133 IO (io), 134 IO (io), 135 IO (io), 136 IO (io), 137 IO (io), 139 IO (io), 140 IO (io), 141 IO (io), 142 IO (io), 143 IO (io)
part B pins: 158 IO (io), 159 IO (io), 160 IO (io), 161 IO (io), 162 IO (io), 163 IO (io), 164 IO (io), 165 IO (io), 168 IO (io), 169 IO (io), 170 IO (io), 171 IO (io), 172 IO (io), 173 IO (io), 174 IO (io), 175 IO (io), 178 IO (io), 179 IO (io), 180 IO (io), 181 IO (io), 182 IO (io), 183 IO (io), 184 IO (io), 185 IO (io), 188 IO (io), 189 IO (io), 190 IO (io), 191 IO (io), 192 IO (io), 193 IO (io), 194 IO (io), 195 IO (io), 198 IO (io), 199 IO (io), 200 IO (io), 201 IO (io), 202 IO (io), 203 IO (io), 204 IO (io), 205 IO (io), 208 IO (io), 209 IO (io), 210 IO (io), 211 IO (io), 212 IO (io), 213 IO (io), 214 IO (io), 215 IO (io), 218 IO (io), 219 IO (io), 220 IO (io), 221 IO (io), 222 IO (io), 223 IO (io), 224 IO (io), 225 IO (io), 238 IO (io), 239 IO (io), 240 IO (io), 241 IO (io), 242 IO (io), 244 IO (io), 245 IO (io), 246 IO (io), 247 IO (io), 248 IO (io), 249 IO (io), 250 IO (io), 251 IO (io), 252 IO (io), 253 IO (io), 255 IO (io), 256 IO (io), 257 IO (io), 258 IO (io), 259 IO (io), 261 IO (io), 262 IO (io), 263 IO (io), 264 IO (io), 265 IO (io), 268 IO (io), 269 IO (io), 270 IO (io), 271 IO (io), 272 IO (io), 274 IO (io), 275 IO (io), 276 IO (io), 277 IO (io), 278 IO (io), 280 IO (io), 281 IO (io), 282 IO (io), 283 IO (io), 284 IO (io), 285 IO (io), 286 IO (io), 287 IO (io), 288 IO (io), 289 IO (io), 291 IO (io), 292 IO (io), 293 IO (io), 294 IO (io), 295 IO (io)
part C pins: 3 VCCIO (3.3V OR 5.0V) (power), 12 VCCINT (5.0V ONLY) (power), 13 GND (power), 22 GND (power), 23 VCCIO (3.3V OR 5.0V) (power), 32 VCCINT (5.0V ONLY) (power), 33 GND (power), 42 GND (power), 43 VCCIO (3.3V OR 5.0V) (power), 52 VCCINT (5.0V ONLY) (power), 53 GND (power), 62 GND (power), 63 VCCIO (3.3V OR 5.0V) (power), 72 VCCINT (5.0V ONLY) (power), 73 GND (power), 74 GND (power), 75 VPP (power), 85 TMS (in), 91 VCCIO (3.3V OR 5.0V) (power), 102 GND (power), 108 VCCIO (3.3V OR 5.0V) (power), 114 TCK (in), 115 TDI (in), 121 GND (power), 127 VCCIO (3.3V OR 5.0V) (power), 138 GND (power), 144 TDO (out), 155 GND (power), 156 VCCIO (3.3V OR 5.0V) (power), 157 VCCINT (5.0V ONLY) (power), 166 GND (power), 167 GND (power), 176 VCCIO (3.3V OR 5.0V) (power), 177 VCCINT (5.0V ONLY) (power), 186 GND (power), 187 GND (power), 196 VCCIO (3.3V OR 5.0V) (power), 197 VCCINT (5.0V ONLY) (power), 206 GND (power), 207 GND (power), 216 VCCIO (3.3V OR 5.0V) (power), 217 VCCINT (5.0V ONLY) (power), 226 GND (power), 237 DIN3/GCLR (io), 243 VCCIO (3.3V OR 5.0V) (power), 254 GND (power), 260 VCCIO (3.3V OR 5.0V) (power), 266 DIN1/GCLK1 (io), 267 DIN2/GCLK2 (io), 273 GND (power), 279 VCCIO (3.3V OR 5.0V) (power), 290 GND (power), 296 DIN4/GOE (io)
part D pins: 1 NC, 2 NC, 76 NC, 77 NC, 78 NC, 79 NC, 80 NC, 81 NC, 82 NC, 83 NC, 84 NC, 145 NC, 146 NC, 147 NC, 148 NC, 149 NC, 150 NC, 151 NC, 152 NC, 153 NC, 154 NC, 227 NC, 228 NC, 229 NC, 230 NC, 231 NC, 232 NC, 233 NC, 234 NC, 235 NC, 236 NC, 297 NC, 298 NC, 299 NC, 300 NC, 301 NC, 302 NC, 303 NC, 304 NC

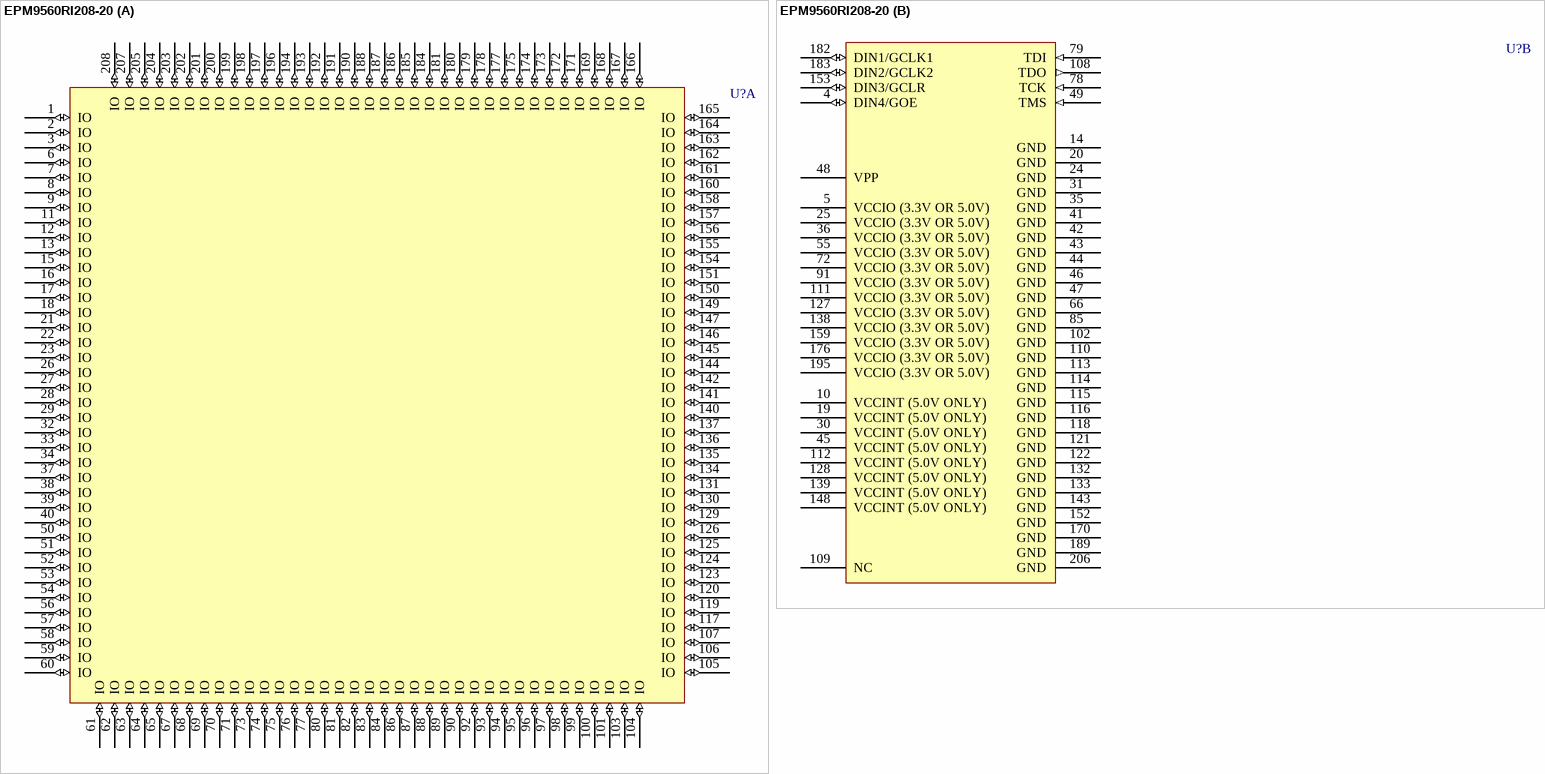
[diagram p28: symbol EPM9560RI208-20]

## EPM9560RI208-20
designator U?
MAX 9000 PLD with 153 I/O Pins, 208-Pin RQFP, Industrial Grade; Published: 23-Sep-2002; LatestRevisionDate: 13-Apr-2006; LatestRevisionNote: IPC-7351 Footprint Added.; DatasheetVersion: Jul-1999; PackageVersion: ver14.1, Oct-2005; PackageReference: RQFP208; Publisher: Altium Limited; PackageDescription: 208-Pin Power Quad Flat Pack (RQFP208); Code_JEDEC: MS-029-FA-1; ComponentLink1Description: Manufacturer Link; ComponentLink1URL: http://www.altera.com/products/devices/max9k/m9k-index.html; ComponentLink2Description: Datasheet; ComponentLink2URL: http://www.altera.com/literature/ds/m9000.pdf
footprint RQFP208_N (Shrink QFP, 208-Leads, Body 28x28mm, Pitch 0.5mm, IPC Medium Density)
footprint RQFP208_L (Shrink QFP, 208-Leads, Body 28x28mm, Pitch 0.5mm, IPC High Density)
footprint RQFP208_M (Shrink QFP, 208-Leads, Body 28x28mm, Pitch 0.5mm, IPC Low Density)
3D model EPM9560-RQFP208 (208-Pin Power Quad Flat Pack (RQFP208))
part A pins: 1 IO (io), 2 IO (io), 3 IO (io), 6 IO (io), 7 IO (io), 8 IO (io), 9 IO (io), 11 IO (io), 12 IO (io), 13 IO (io), 15 IO (io), 16 IO (io), 17 IO (io), 18 IO (io), 21 IO (io), 22 IO (io), 23 IO (io), 26 IO (io), 27 IO (io), 28 IO (io), 29 IO (io), 32 IO (io), 33 IO (io), 34 IO (io), 37 IO (io), 38 IO (io), 39 IO (io), 40 IO (io), 50 IO (io), 51 IO (io), 52 IO (io), 53 IO (io), 54 IO (io), 56 IO (io), 57 IO (io), 58 IO (io), 59 IO (io), 60 IO (io), 61 IO (io), 62 IO (io), 63 IO (io), 64 IO (io), 65 IO (io), 67 IO (io), 68 IO (io), 69 IO (io), 70 IO (io), 71 IO (io), 73 IO (io), 74 IO (io), 75 IO (io), 76 IO (io), 77 IO (io), 80 IO (io), 81 IO (io), 82 IO (io), 83 IO (io), 84 IO (io), 86 IO (io), 87 IO (io), 88 IO (io), 89 IO (io), 90 IO (io), 92 IO (io), 93 IO (io), 94 IO (io), 95 IO (io), 96 IO (io), 97 IO (io), 98 IO (io), 99 IO (io), 100 IO (io), 101 IO (io), 103 IO (io), 104 IO (io), 105 IO (io), 106 IO (io), 107 IO (io), 117 IO (io), 119 IO (io), 120 IO (io), 123 IO (io), 124 IO (io), 125 IO (io), 126 IO (io), 129 IO (io), 130 IO (io), 131 IO (io), 134 IO (io), 135 IO (io), 136 IO (io), 137 IO (io), 140 IO (io), 141 IO (io), 142 IO (io), 144 IO (io), 145 IO (io), 146 IO (io), 147 IO (io), 149 IO (io), 150 IO (io), 151 IO (io), 154 IO (io), 155 IO (io), 156 IO (io), 157 IO (io), 158 IO (io), 160 IO (io), 161 IO (io), 162 IO (io), 163 IO (io), 164 IO (io), 165 IO (io), 166 IO (io), 167 IO (io), 168 IO (io), 169 IO (io), 171 IO (io), 172 IO (io), 173 IO (io), 174 IO (io), 175 IO (io), 177 IO (io), 178 IO (io), 179 IO (io), 180 IO (io), 181 IO (io), 184 IO (io), 185 IO (io), 186 IO (io), 187 IO (io), 188 IO (io), 190 IO (io), 191 IO (io), 192 IO (io), 193 IO (io), 194 IO (io), 196 IO (io), 197 IO (io), 198 IO (io), 199 IO (io), 200 IO (io), 201 IO (io), 202 IO (io), 203 IO (io), 204 IO (io), 205 IO (io), 207 IO (io), 208 IO (io)
part B pins: 4 DIN4/GOE (io), 5 VCCIO (3.3V OR 5.0V) (power), 10 VCCINT (5.0V ONLY) (power), 14 GND (power), 19 VCCINT (5.0V ONLY) (power), 20 GND (power), 24 GND (power), 25 VCCIO (3.3V OR 5.0V) (power), 30 VCCINT (5.0V ONLY) (power), 31 GND (power), 35 GND (power), 36 VCCIO (3.3V OR 5.0V) (power), 41 GND (power), 42 GND (power), 43 GND (power), 44 GND (power), 45 VCCINT (5.0V ONLY) (power), 46 GND (power), 47 GND (power), 48 VPP (power), 49 TMS (in), 55 VCCIO (3.3V OR 5.0V) (power), 66 GND (power), 72 VCCIO (3.3V OR 5.0V) (power), 78 TCK (in), 79 TDI (in), 85 GND (power), 91 VCCIO (3.3V OR 5.0V) (power), 102 GND (power), 108 TDO (out), 109 NC, 110 GND (power), 111 VCCIO (3.3V OR 5.0V) (power), 112 VCCINT (5.0V ONLY) (power), 113 GND (power), 114 GND (power), 115 GND (power), 116 GND (power), 118 GND (power), 121 GND (power), 122 GND (power), 127 VCCIO (3.3V OR 5.0V) (power), 128 VCCINT (5.0V ONLY) (power), 132 GND (power), 133 GND (power), 138 VCCIO (3.3V OR 5.0V) (power), 139 VCCINT (5.0V ONLY) (power), 143 GND (power), 148 VCCINT (5.0V ONLY) (power), 152 GND (power), 153 DIN3/GCLR (io), 159 VCCIO (3.3V OR 5.0V) (power), 170 GND (power), 176 VCCIO (3.3V OR 5.0V) (power), 182 DIN1/GCLK1 (io), 183 DIN2/GCLK2 (io), 189 GND (power), 195 VCCIO (3.3V OR 5.0V) (power), 206 GND (power)

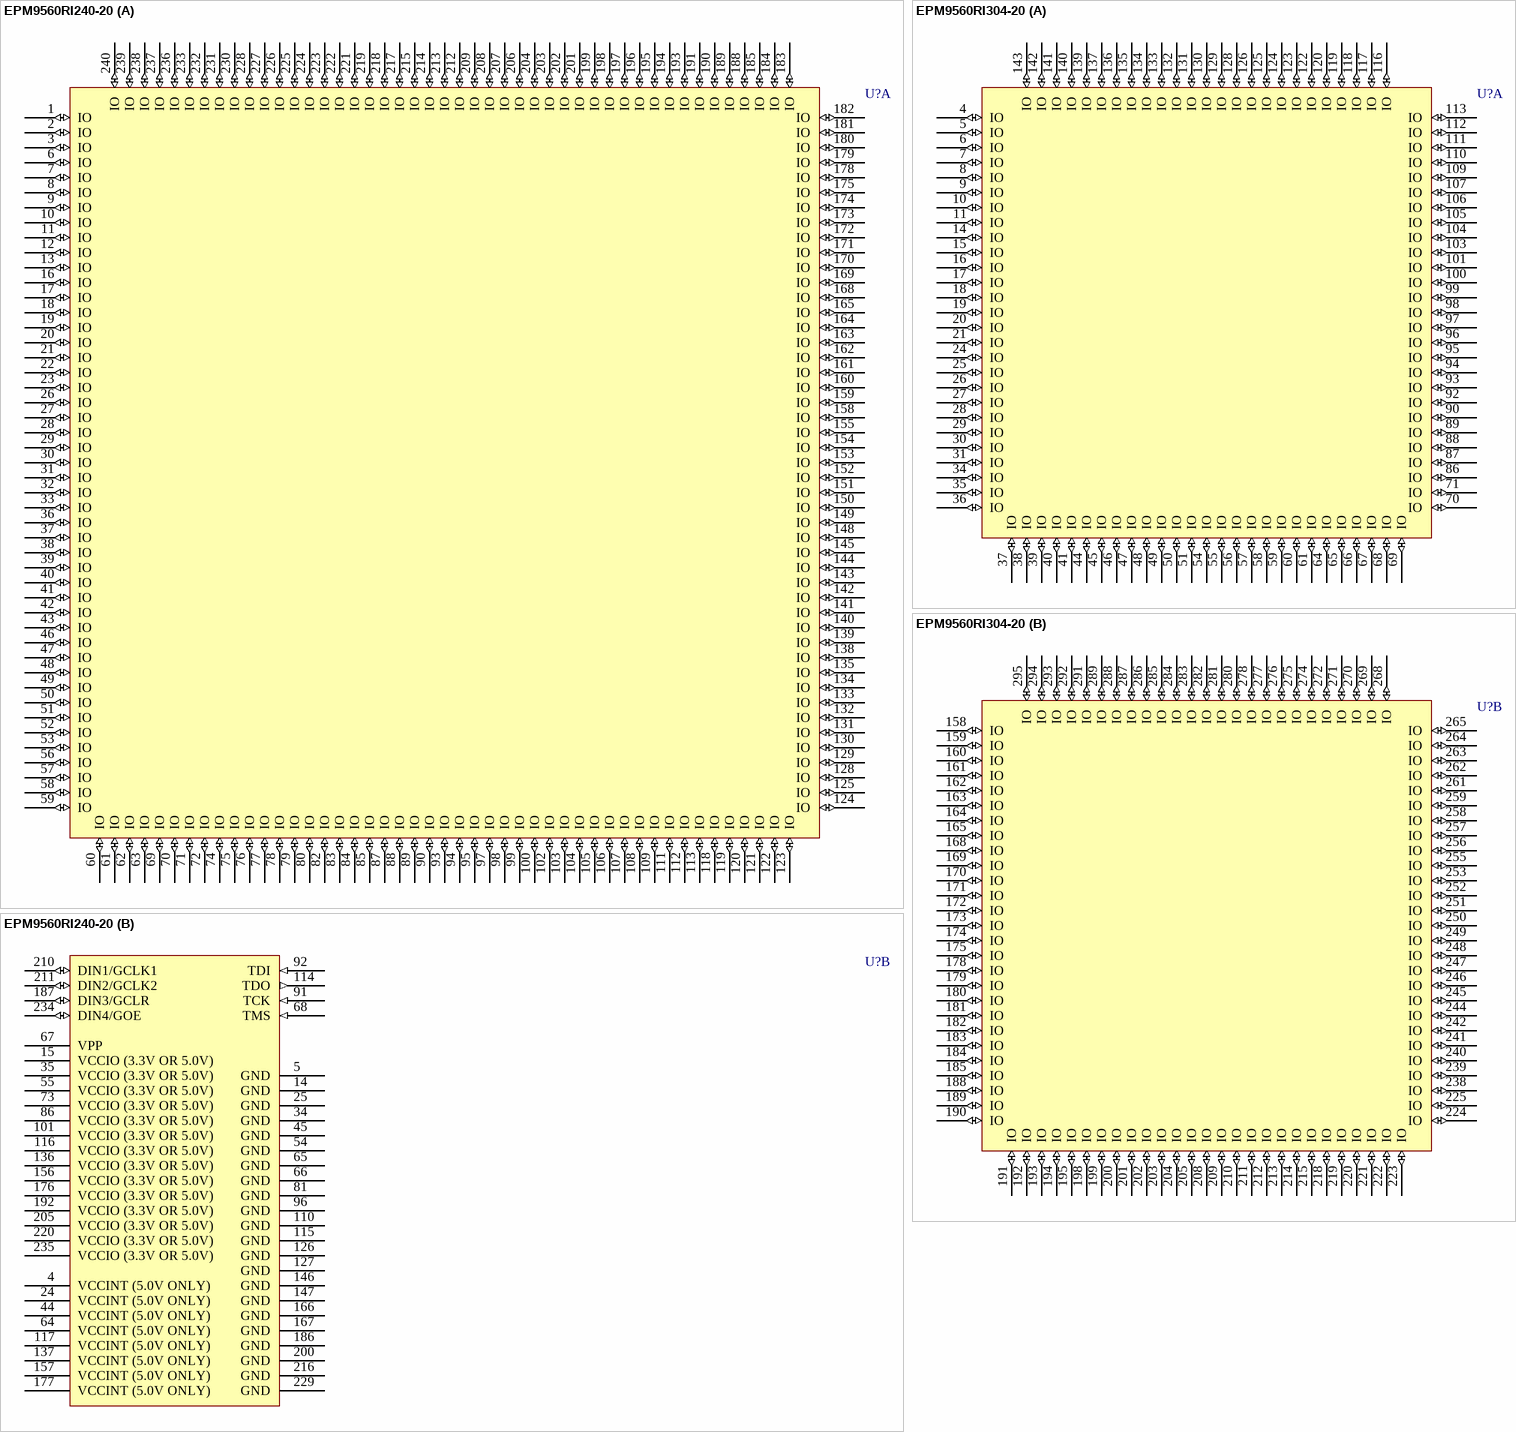
[diagram p29: symbols EPM9560RI240-20 to EPM9560RI304-20]

## EPM9560RI240-20
designator U?
MAX 9000 PLD with 191 I/O Pins, 240-Pin RQFP, Industrial Grade; Published: 23-Sep-2002; LatestRevisionDate: 13-Apr-2006; LatestRevisionNote: IPC-7351 Footprint Added.; DatasheetVersion: Jul-1999; PackageVersion: ver14.1, Oct-2005; PackageReference: RQFP240; Publisher: Altium Limited; PackageDescription: 240-Pin Power Quad Flat Pack (RQFP240); Code_JEDEC: MS-029-GA; ComponentLink1Description: Manufacturer Link; ComponentLink1URL: http://www.altera.com/products/devices/max9k/m9k-index.html; ComponentLink2Description: Datasheet; ComponentLink2URL: http://www.altera.com/literature/ds/m9000.pdf
footprint RQFP240_N (Shrink QFP, 240-Leads, Body 32x32mm, Pitch 0.5mm, IPC Medium Density)
footprint RQFP240_L (Shrink QFP, 240-Leads, Body 32x32mm, Pitch 0.5mm, IPC High Density)
footprint RQFP240_M (Shrink QFP, 240-Leads, Body 32x32mm, Pitch 0.5mm, IPC Low Density)
3D model EPM9560-RQFP240 (240-Pin Power Quad Flat Pack (RQFP240))
part A pins: 1 IO (io), 2 IO (io), 3 IO (io), 6 IO (io), 7 IO (io), 8 IO (io), 9 IO (io), 10 IO (io), 11 IO (io), 12 IO (io), 13 IO (io), 16 IO (io), 17 IO (io), 18 IO (io), 19 IO (io), 20 IO (io), 21 IO (io), 22 IO (io), 23 IO (io), 26 IO (io), 27 IO (io), 28 IO (io), 29 IO (io), 30 IO (io), 31 IO (io), 32 IO (io), 33 IO (io), 36 IO (io), 37 IO (io), 38 IO (io), 39 IO (io), 40 IO (io), 41 IO (io), 42 IO (io), 43 IO (io), 46 IO (io), 47 IO (io), 48 IO (io), 49 IO (io), 50 IO (io), 51 IO (io), 52 IO (io), 53 IO (io), 56 IO (io), 57 IO (io), 58 IO (io), 59 IO (io), 60 IO (io), 61 IO (io), 62 IO (io), 63 IO (io), 69 IO (io), 70 IO (io), 71 IO (io), 72 IO (io), 74 IO (io), 75 IO (io), 76 IO (io), 77 IO (io), 78 IO (io), 79 IO (io), 80 IO (io), 82 IO (io), 83 IO (io), 84 IO (io), 85 IO (io), 87 IO (io), 88 IO (io), 89 IO (io), 90 IO (io), 93 IO (io), 94 IO (io), 95 IO (io), 97 IO (io), 98 IO (io), 99 IO (io), 100 IO (io), 102 IO (io), 103 IO (io), 104 IO (io), 105 IO (io), 106 IO (io), 107 IO (io), 108 IO (io), 109 IO (io), 111 IO (io), 112 IO (io), 113 IO (io), 118 IO (io), 119 IO (io), 120 IO (io), 121 IO (io), 122 IO (io), 123 IO (io), 124 IO (io), 125 IO (io), 128 IO (io), 129 IO (io), 130 IO (io), 131 IO (io), 132 IO (io), 133 IO (io), 134 IO (io), 135 IO (io), 138 IO (io), 139 IO (io), 140 IO (io), 141 IO (io), 142 IO (io), 143 IO (io), 144 IO (io), 145 IO (io), 148 IO (io), 149 IO (io), 150 IO (io), 151 IO (io), 152 IO (io), 153 IO (io), 154 IO (io), 155 IO (io), 158 IO (io), 159 IO (io), 160 IO (io), 161 IO (io), 162 IO (io), 163 IO (io), 164 IO (io), 165 IO (io), 168 IO (io), 169 IO (io), 170 IO (io), 171 IO (io), 172 IO (io), 173 IO (io), 174 IO (io), 175 IO (io), 178 IO (io), 179 IO (io), 180 IO (io), 181 IO (io), 182 IO (io), 183 IO (io), 184 IO (io), 185 IO (io), 188 IO (io), 189 IO (io), 190 IO (io), 191 IO (io), 193 IO (io), 194 IO (io), 195 IO (io), 196 IO (io), 197 IO (io), 198 IO (io), 199 IO (io), 201 IO (io), 202 IO (io), 203 IO (io), 204 IO (io), 206 IO (io), 207 IO (io), 208 IO (io), 209 IO (io), 212 IO (io), 213 IO (io), 214 IO (io), 215 IO (io), 217 IO (io), 218 IO (io), 219 IO (io), 221 IO (io), 222 IO (io), 223 IO (io), 224 IO (io), 225 IO (io), 226 IO (io), 227 IO (io), 228 IO (io), 230 IO (io), 231 IO (io), 232 IO (io), 233 IO (io), 236 IO (io), 237 IO (io), 238 IO (io), 239 IO (io), 240 IO (io)
part B pins: 4 VCCINT (5.0V ONLY) (power), 5 GND (power), 14 GND (power), 15 VCCIO (3.3V OR 5.0V) (power), 24 VCCINT (5.0V ONLY) (power), 25 GND (power), 34 GND (power), 35 VCCIO (3.3V OR 5.0V) (power), 44 VCCINT (5.0V ONLY) (power), 45 GND (power), 54 GND (power), 55 VCCIO (3.3V OR 5.0V) (power), 64 VCCINT (5.0V ONLY) (power), 65 GND (power), 66 GND (power), 67 VPP (power), 68 TMS (in), 73 VCCIO (3.3V OR 5.0V) (power), 81 GND (power), 86 VCCIO (3.3V OR 5.0V) (power), 91 TCK (in), 92 TDI (in), 96 GND (power), 101 VCCIO (3.3V OR 5.0V) (power), 110 GND (power), 114 TDO (out), 115 GND (power), 116 VCCIO (3.3V OR 5.0V) (power), 117 VCCINT (5.0V ONLY) (power), 126 GND (power), 127 GND (power), 136 VCCIO (3.3V OR 5.0V) (power), 137 VCCINT (5.0V ONLY) (power), 146 GND (power), 147 GND (power), 156 VCCIO (3.3V OR 5.0V) (power), 157 VCCINT (5.0V ONLY) (power), 166 GND (power), 167 GND (power), 176 VCCIO (3.3V OR 5.0V) (power), 177 VCCINT (5.0V ONLY) (power), 186 GND (power), 187 DIN3/GCLR (io), 192 VCCIO (3.3V OR 5.0V) (power), 200 GND (power), 205 VCCIO (3.3V OR 5.0V) (power), 210 DIN1/GCLK1 (io), 211 DIN2/GCLK2 (io), 216 GND (power), 220 VCCIO (3.3V OR 5.0V) (power), 229 GND (power), 234 DIN4/GOE (io), 235 VCCIO (3.3V OR 5.0V) (power)

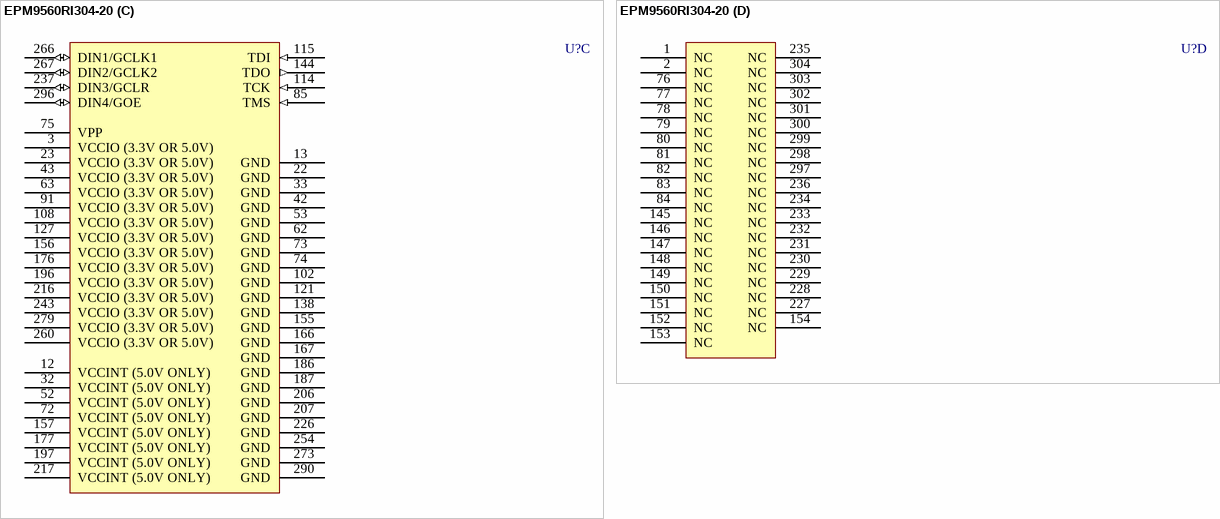
[diagram p30: symbol EPM9560RI304-20]

## EPM9560RI304-20
designator U?
MAX 9000 PLD with 216 I/O Pins, 304-Pin RQFP, Industrial Grade; Published: 23-Sep-2002; LatestRevisionDate: 13-Apr-2006; LatestRevisionNote: IPC-7351 Footprint Added.; DatasheetVersion: Jul-1999; PackageVersion: ver14.1, Oct-2005; PackageReference: RQFP304; Publisher: Altium Limited; PackageDescription: 304-Pin Power Quad Flat Pack (RQFP304); Code_JEDEC: MS-029-JA; ComponentLink1Description: Manufacturer Link; ComponentLink1URL: http://www.altera.com/products/devices/max9k/m9k-index.html; ComponentLink2Description: Datasheet; ComponentLink2URL: http://www.altera.com/literature/ds/m9000.pdf
footprint RQFP304_N (Shrink QFP, 304-Leads, Body 40x40mm, Pitch 0.5mm, IPC Medium Density)
footprint RQFP304_L (Shrink QFP, 304-Leads, Body 40x40mm, Pitch 0.5mm, IPC High Density)
footprint RQFP304_M (Shrink QFP, 304-Leads, Body 40x40mm, Pitch 0.5mm, IPC Low Density)
3D model EPM9560-RQFP304 (304-Pin Power Quad Flat Pack (RQFP304))
part A pins: 4 IO (io), 5 IO (io), 6 IO (io), 7 IO (io), 8 IO (io), 9 IO (io), 10 IO (io), 11 IO (io), 14 IO (io), 15 IO (io), 16 IO (io), 17 IO (io), 18 IO (io), 19 IO (io), 20 IO (io), 21 IO (io), 24 IO (io), 25 IO (io), 26 IO (io), 27 IO (io), 28 IO (io), 29 IO (io), 30 IO (io), 31 IO (io), 34 IO (io), 35 IO (io), 36 IO (io), 37 IO (io), 38 IO (io), 39 IO (io), 40 IO (io), 41 IO (io), 44 IO (io), 45 IO (io), 46 IO (io), 47 IO (io), 48 IO (io), 49 IO (io), 50 IO (io), 51 IO (io), 54 IO (io), 55 IO (io), 56 IO (io), 57 IO (io), 58 IO (io), 59 IO (io), 60 IO (io), 61 IO (io), 64 IO (io), 65 IO (io), 66 IO (io), 67 IO (io), 68 IO (io), 69 IO (io), 70 IO (io), 71 IO (io), 86 IO (io), 87 IO (io), 88 IO (io), 89 IO (io), 90 IO (io), 92 IO (io), 93 IO (io), 94 IO (io), 95 IO (io), 96 IO (io), 97 IO (io), 98 IO (io), 99 IO (io), 100 IO (io), 101 IO (io), 103 IO (io), 104 IO (io), 105 IO (io), 106 IO (io), 107 IO (io), 109 IO (io), 110 IO (io), 111 IO (io), 112 IO (io), 113 IO (io), 116 IO (io), 117 IO (io), 118 IO (io), 119 IO (io), 120 IO (io), 122 IO (io), 123 IO (io), 124 IO (io), 125 IO (io), 126 IO (io), 128 IO (io), 129 IO (io), 130 IO (io), 131 IO (io), 132 IO (io), 133 IO (io), 134 IO (io), 135 IO (io), 136 IO (io), 137 IO (io), 139 IO (io), 140 IO (io), 141 IO (io), 142 IO (io), 143 IO (io)
part B pins: 158 IO (io), 159 IO (io), 160 IO (io), 161 IO (io), 162 IO (io), 163 IO (io), 164 IO (io), 165 IO (io), 168 IO (io), 169 IO (io), 170 IO (io), 171 IO (io), 172 IO (io), 173 IO (io), 174 IO (io), 175 IO (io), 178 IO (io), 179 IO (io), 180 IO (io), 181 IO (io), 182 IO (io), 183 IO (io), 184 IO (io), 185 IO (io), 188 IO (io), 189 IO (io), 190 IO (io), 191 IO (io), 192 IO (io), 193 IO (io), 194 IO (io), 195 IO (io), 198 IO (io), 199 IO (io), 200 IO (io), 201 IO (io), 202 IO (io), 203 IO (io), 204 IO (io), 205 IO (io), 208 IO (io), 209 IO (io), 210 IO (io), 211 IO (io), 212 IO (io), 213 IO (io), 214 IO (io), 215 IO (io), 218 IO (io), 219 IO (io), 220 IO (io), 221 IO (io), 222 IO (io), 223 IO (io), 224 IO (io), 225 IO (io), 238 IO (io), 239 IO (io), 240 IO (io), 241 IO (io), 242 IO (io), 244 IO (io), 245 IO (io), 246 IO (io), 247 IO (io), 248 IO (io), 249 IO (io), 250 IO (io), 251 IO (io), 252 IO (io), 253 IO (io), 255 IO (io), 256 IO (io), 257 IO (io), 258 IO (io), 259 IO (io), 261 IO (io), 262 IO (io), 263 IO (io), 264 IO (io), 265 IO (io), 268 IO (io), 269 IO (io), 270 IO (io), 271 IO (io), 272 IO (io), 274 IO (io), 275 IO (io), 276 IO (io), 277 IO (io), 278 IO (io), 280 IO (io), 281 IO (io), 282 IO (io), 283 IO (io), 284 IO (io), 285 IO (io), 286 IO (io), 287 IO (io), 288 IO (io), 289 IO (io), 291 IO (io), 292 IO (io), 293 IO (io), 294 IO (io), 295 IO (io)
part C pins: 3 VCCIO (3.3V OR 5.0V) (power), 12 VCCINT (5.0V ONLY) (power), 13 GND (power), 22 GND (power), 23 VCCIO (3.3V OR 5.0V) (power), 32 VCCINT (5.0V ONLY) (power), 33 GND (power), 42 GND (power), 43 VCCIO (3.3V OR 5.0V) (power), 52 VCCINT (5.0V ONLY) (power), 53 GND (power), 62 GND (power), 63 VCCIO (3.3V OR 5.0V) (power), 72 VCCINT (5.0V ONLY) (power), 73 GND (power), 74 GND (power), 75 VPP (power), 85 TMS (in), 91 VCCIO (3.3V OR 5.0V) (power), 102 GND (power), 108 VCCIO (3.3V OR 5.0V) (power), 114 TCK (in), 115 TDI (in), 121 GND (power), 127 VCCIO (3.3V OR 5.0V) (power), 138 GND (power), 144 TDO (out), 155 GND (power), 156 VCCIO (3.3V OR 5.0V) (power), 157 VCCINT (5.0V ONLY) (power), 166 GND (power), 167 GND (power), 176 VCCIO (3.3V OR 5.0V) (power), 177 VCCINT (5.0V ONLY) (power), 186 GND (power), 187 GND (power), 196 VCCIO (3.3V OR 5.0V) (power), 197 VCCINT (5.0V ONLY) (power), 206 GND (power), 207 GND (power), 216 VCCIO (3.3V OR 5.0V) (power), 217 VCCINT (5.0V ONLY) (power), 226 GND (power), 237 DIN3/GCLR (io), 243 VCCIO (3.3V OR 5.0V) (power), 254 GND (power), 260 VCCIO (3.3V OR 5.0V) (power), 266 DIN1/GCLK1 (io), 267 DIN2/GCLK2 (io), 273 GND (power), 279 VCCIO (3.3V OR 5.0V) (power), 290 GND (power), 296 DIN4/GOE (io)
part D pins: 1 NC, 2 NC, 76 NC, 77 NC, 78 NC, 79 NC, 80 NC, 81 NC, 82 NC, 83 NC, 84 NC, 145 NC, 146 NC, 147 NC, 148 NC, 149 NC, 150 NC, 151 NC, 152 NC, 153 NC, 154 NC, 227 NC, 228 NC, 229 NC, 230 NC, 231 NC, 232 NC, 233 NC, 234 NC, 235 NC, 236 NC, 297 NC, 298 NC, 299 NC, 300 NC, 301 NC, 302 NC, 303 NC, 304 NC